# EAGLE library part MAX73XX (library SPCoast)
16-Port I/O Expander with LED Intensity Control, Interrupt, and Hot-Insertion Protection
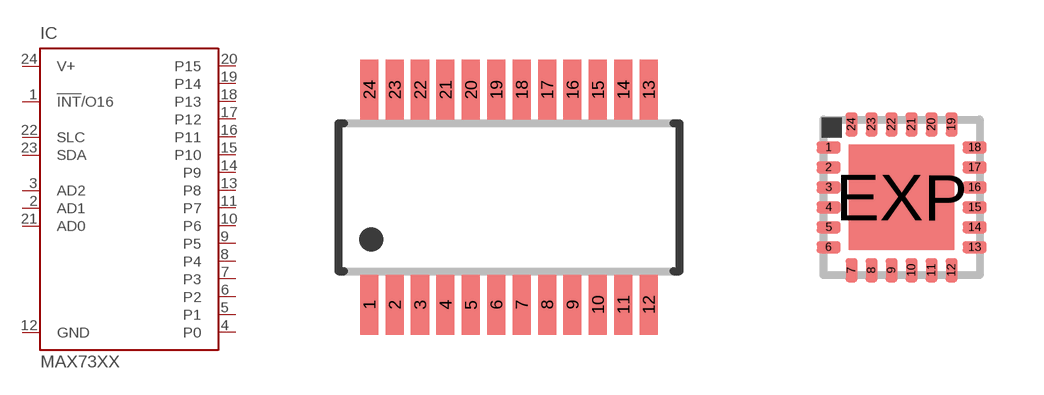
[diagram p62: symbol with the pads of QSOP24; footprints QSOP24, TQFN24-EP]

Designator prefix IC

## MAX73XX/AEG (MPN: MAX7313AEG+; OC_FARNELL: unknown; OC_NEWARK: 53K7268)  [QSOP24]
1  !INT!/O16  oc
2  AD1  in
3  AD2  in
4  P0
5  P1
6  P2
7  P3
8  P4
9  P5
10  P6
11  P7
12  GND  pwr
13  P8
14  P9
15  P10
16  P11
17  P12
18  P13
19  P14
20  P15
21  AD0  in
22  SLC  in
23  SDA
24  V+  pwr

## MAX73XX/ATG  [TQFN24-EP]
1  P0
2  P1
3  P2
4  P3
5  P4
6  P5
7  P6
8  P7
9  GND  pwr
10  P8
11  P9
12  P10
13  P11
14  P12
15  P13
16  P14
17  P15
18  AD0  in
19  SLC  in
20  SDA
21  V+  pwr
22  !INT!/O16  oc
23  AD1  in
24  AD2  in

## MAX73XX/AUG  [TSSOP24]
Pads as for QSOP24

## MAX73XX/AWG  [SO24]
Pads as for QSOP24

## Footprint QSOP24 (pad centres in mm)
QSOP 24 MAX7313
smd 0.45 x 1.5: 1 -3.493,-2.69; 2 -2.857,-2.69; 3 -2.223,-2.69; 4 -1.587,-2.69; 5 -0.953,-2.69; 6 -0.318,-2.69; 7 0.318,-2.69; 8 0.953,-2.69; 9 1.587,-2.69; 10 2.223,-2.69; 11 2.857,-2.69; 12 3.493,-2.69; 13 3.493,2.69; 14 2.857,2.69; 15 2.223,2.69; 16 1.587,2.69; 17 0.953,2.69; 18 0.318,2.69; 19 -0.318,2.69; 20 -0.953,2.69; 21 -1.587,2.69; 22 -2.223,2.69; 23 -2.857,2.69; 24 -3.493,2.69

## Footprint TQFN24-EP (pad centres in mm)
24 TQFN-EP 24 T2444-4 MAX4947-MAX4948
smd 0.6 x 0.3: 1 -1.825,1.25; 2 -1.825,0.75; 3 -1.825,0.25; 4 -1.825,-0.25; 5 -1.825,-0.75; 6 -1.825,-1.25; 13 1.825,-1.25; 14 1.825,-0.75; 15 1.825,-0.25; 16 1.825,0.25; 17 1.825,0.75; 18 1.825,1.25
smd 0.3 x 0.6: 7 -1.25,-1.825; 8 -0.75,-1.825; 9 -0.25,-1.825; 10 0.25,-1.825; 11 0.75,-1.825; 12 1.25,-1.825; 19 1.25,1.825; 20 0.75,1.825; 21 0.25,1.825; 22 -0.25,1.825; 23 -0.75,1.825; 24 -1.25,1.825
smd 2.63 x 2.63: EXP 0,0

## Footprint TSSOP24 (pad centres in mm)
Thin Shrink Small Outline Plastic 24 MAX3223-MAX3243.pdf
smd 0.305 x 0.991: 1 -3.575,-2.918; 2 -2.925,-2.918; 3 -2.275,-2.918; 4 -1.625,-2.918; 5 -0.975,-2.918; 6 -0.325,-2.918; 7 0.325,-2.918; 8 0.975,-2.918; 9 1.625,-2.918; 10 2.275,-2.918; 11 2.925,-2.918; 12 3.575,-2.918; 13 3.575,2.918; 14 2.925,2.918; 15 2.275,2.918; 16 1.625,2.918; 17 0.975,2.918; 18 0.325,2.918; 19 -0.325,2.918; 20 -0.975,2.918; 21 -1.625,2.918; 22 -2.275,2.918; 23 -2.925,2.918; 24 -3.575,2.918

## Footprint SO24 (pad centres in mm)
Small Outline Package 7.6 x 15.74 mm
smd 0.6 x 2.2: 1 -6.985,-4.6; 2 -5.715,-4.6; 3 -4.445,-4.6; 4 -3.175,-4.6; 5 -1.905,-4.6; 6 -0.635,-4.6; 7 0.635,-4.6; 8 1.905,-4.6; 9 3.175,-4.6; 10 4.445,-4.6; 11 5.715,-4.6; 12 6.985,-4.6; 13 6.985,4.6; 14 5.715,4.6; 15 4.445,4.6; 16 3.175,4.6; 17 1.905,4.6; 18 0.635,4.6; 19 -0.635,4.6; 20 -1.905,4.6; 21 -3.175,4.6; 22 -4.445,4.6; 23 -5.715,4.6; 24 -6.985,4.6